# Altium schematic symbol library IC_TI_MCU_TUSB8041.SchLib: 1 symbol
Pins are listed as number, name and electrical type; pins without a type are passive.

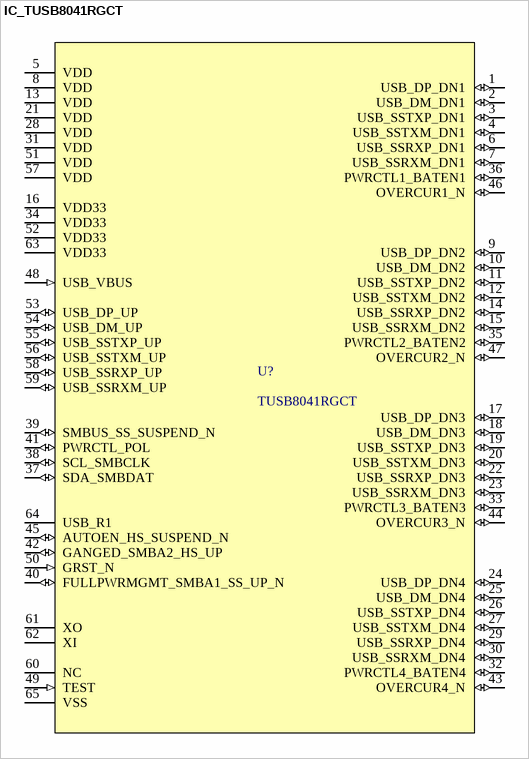
[diagram p0: symbol IC_TUSB8041RGCT]

## IC_TUSB8041RGCT
designator U?, comment TUSB8041RGCT
4-port 5-Gbps SuperSpeed USB 3.0 hub 64-VQFN 0 to 70; Manufacturer_Name: Texas Instruments; PartNumber: TUSB8041RGCR; CompType: IC; TYPE: TYPE; RefDes: RefDes; Copyright: Copyright (C) 2025 Ultra Librarian. All rights reserved.; Manufacturer_Part_Number: TUSB8041RGCT; Application_BuildNumber: *; Alternate_PartNumber: TUSB8041RGCT; PackageReference: RGC0064G; MountType: SMT; RoHS: Y; Manufacturer: Texas Instruments
footprint PKG_VQFN-64-9x9
pins: 1 USB_DP_DN1 (io), 2 USB_DM_DN1 (io), 3 USB_SSTXP_DN1 (io), 4 USB_SSTXM_DN1 (io), 5 VDD (power), 6 USB_SSRXP_DN1 (io), 7 USB_SSRXM_DN1 (io), 8 VDD (power), 9 USB_DP_DN2 (io), 10 USB_DM_DN2 (io), 11 USB_SSTXP_DN2 (io), 12 USB_SSTXM_DN2 (io), 13 VDD (power), 14 USB_SSRXP_DN2 (io), 15 USB_SSRXM_DN2 (io), 16 VDD33 (power), 17 USB_DP_DN3 (io), 18 USB_DM_DN3 (io), 19 USB_SSTXP_DN3 (io), 20 USB_SSTXM_DN3 (io), 21 VDD (power), 22 USB_SSRXP_DN3 (io), 23 USB_SSRXM_DN3 (io), 24 USB_DP_DN4 (io), 25 USB_DM_DN4 (io), 26 USB_SSTXP_DN4 (io), 27 USB_SSTXM_DN4 (io), 28 VDD (power), 29 USB_SSRXP_DN4 (io), 30 USB_SSRXM_DN4 (io), 31 VDD (power), 32 PWRCTL4_BATEN4 (io), 33 PWRCTL3_BATEN3 (io), 34 VDD33 (power), 35 PWRCTL2_BATEN2 (io), 36 PWRCTL1_BATEN1 (io), 37 SDA_SMBDAT (io), 38 SCL_SMBCLK (io), 39 SMBUS_SS_SUSPEND_N (io), 40 FULLPWRMGMT_SMBA1_SS_UP_N (io), 41 PWRCTL_POL (io), 42 GANGED_SMBA2_HS_UP (io), 43 OVERCUR4_N (io), 44 OVERCUR3_N (io), 45 AUTOEN_HS_SUSPEND_N (io), 46 OVERCUR1_N (io), 47 OVERCUR2_N (io), 48 USB_VBUS (in), 49 TEST (in), 50 GRST_N (in), 51 VDD (power), 52 VDD33 (power), 53 USB_DP_UP (io), 54 USB_DM_UP (io), 55 USB_SSTXP_UP (io), 56 USB_SSTXM_UP (io), 57 VDD (power), 58 USB_SSRXP_UP (io), 59 USB_SSRXM_UP (io), 60 NC (power), 61 XO, 62 XI, 63 VDD33 (power), 64 USB_R1, 65 VSS (power)